# EAGLE library part AVR_DEBUG (library Eric Navarrete Custom Parts Feb 2019)
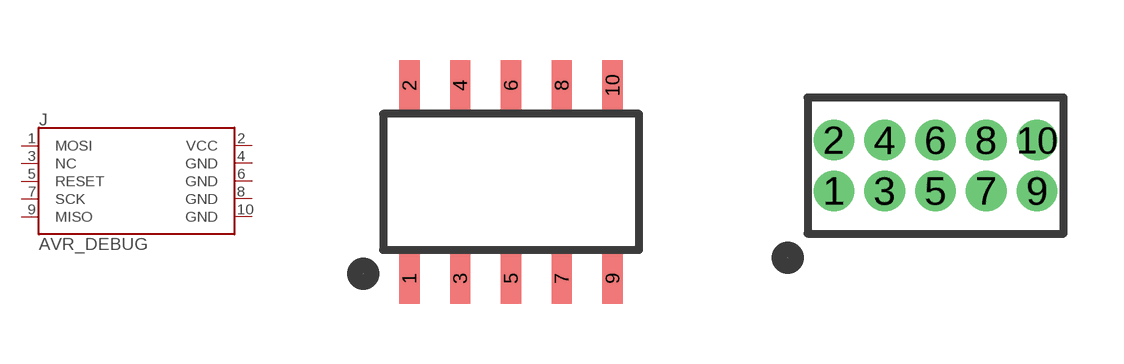
[diagram p18: symbol with the pads of 2X5_1.27MM_SMD_HEADER; footprints 2X5_1.27MM_SMD_HEADER, 2X5_1.27MM_PTH_HEADER]

Designator prefix J

## AVR_DEBUGSMD  [2X5_1.27MM_SMD_HEADER]
1  MOSI
2  VCC
3  NC
4  GND
5  RESET
6  GND
7  SCK
8  GND
9  MISO
10  GND

## AVR_DEBUGPTH  [2X5_1.27MM_PTH_HEADER]
Pads as for 2X5_1.27MM_SMD_HEADER

## AVR_DEBUGPIN_POINT  [2X5_1.27MM_0.7MM_POGO_PIN_POINT]
Pads as for 2X5_1.27MM_SMD_HEADER

## AVR_DEBUGPIN_MOUNT  [2X5_1.27MM_0.7MM_POGO_PIN_MOUNT]
Pads as for 2X5_1.27MM_SMD_HEADER

## AVR_DEBUGPIN_PAD  [2X5_1.27MM_0.7MM_POGO_PIN_POINT_PAD]
Pads as for 2X5_1.27MM_SMD_HEADER

## AVR_DEBUGSMD_2.54P  [2X5_2.54MM_SMD_HEADER]
Pads as for 2X5_1.27MM_SMD_HEADER

## Footprint 2X5_1.27MM_SMD_HEADER (pad centres in mm)
smd 0.508 x 1.27: 1 -2.54,-2.413; 2 -2.54,2.413; 3 -1.27,-2.413; 4 -1.27,2.413; 5 0,-2.413; 6 0,2.413; 7 1.27,-2.413; 8 1.27,2.413; 9 2.54,-2.413; 10 2.54,2.413

## Footprint 2X5_1.27MM_PTH_HEADER (pad centres in mm)
drill 0.508 pad 1: 1 -2.54,-0.635; 2 -2.54,0.635; 3 -1.27,-0.635; 4 -1.27,0.635; 5 0,-0.635; 6 0,0.635; 7 1.27,-0.635; 8 1.27,0.635; 9 2.54,-0.635; 10 2.54,0.635

## Footprint 2X5_1.27MM_0.7MM_POGO_PIN_POINT (pad centres in mm)
drill 0.4 pad 0.8 square: 1 -0.635,2.54
drill 0.4 pad 0.8: 2 0.635,2.54; 3 -0.635,1.27; 4 0.635,1.27; 5 -0.635,0; 6 0.635,0; 7 -0.635,-1.27; 8 0.635,-1.27; 9 -0.635,-2.54; 10 0.635,-2.54

## Footprint 2X5_1.27MM_0.7MM_POGO_PIN_MOUNT (pad centres in mm)
drill 0.69 pad 1.1 square: 1 -0.635,2.54
drill 0.69 pad 1.1: 2 0.635,2.54; 3 -0.635,1.27; 4 0.635,1.27; 5 -0.635,0; 6 0.635,0; 7 -0.635,-1.27; 8 0.635,-1.27; 9 -0.635,-2.54; 10 0.635,-2.54

## Footprint 2X5_1.27MM_0.7MM_POGO_PIN_POINT_PAD (pad centres in mm)
smd 0.8 x 0.8: 1 -0.635,2.54; 2 0.635,2.54; 3 -0.635,1.27; 4 0.635,1.27; 5 -0.635,0; 6 0.635,0; 7 -0.635,-1.27; 8 0.635,-1.27; 9 -0.635,-2.54; 10 0.635,-2.54

## Footprint 2X5_2.54MM_SMD_HEADER (pad centres in mm)
smd 1 x 3.15: 1 -5.08,-2.525; 2 -5.08,2.525; 3 -2.54,-2.525; 4 -2.54,2.525; 5 0,-2.525; 6 0,2.525; 7 2.54,-2.525; 8 2.54,2.525; 9 5.08,-2.525; 10 5.08,2.525